# Altium schematic symbol library 591-2304-013F.SchLib: 3 symbols
Pins are listed as number, name and electrical type; pins without a type are passive.

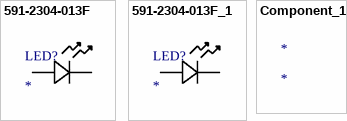
[diagram p0: symbols 591-2304-013F to Component_1]

## 591-2304-013F
designator LED?
No Description Available; Mfr_Name: Dialight
footprint LED_591_PRISM_SMD_RND-R_DIA
pins: 1, 2

## 591-2304-013F_1
designator LED?
No Description Available; Mfr_Name: Dialight
footprint LED_591_PRISM_SMD_RND-R_DIA
pins: 1, 2

## Component_1
designator *